# Altium footprint library GY-521.PcbLib: 1 footprints
Each footprint in its own frame and in the unit in brackets; x right, y up, seen from the top. Pads: shape width x height; smd on the part's side, far side on the other; paste and mask are expansions set on the pad; w line width, h text height; cw(c..) or ccw(c..) is an arc to the next point about the centre after c.
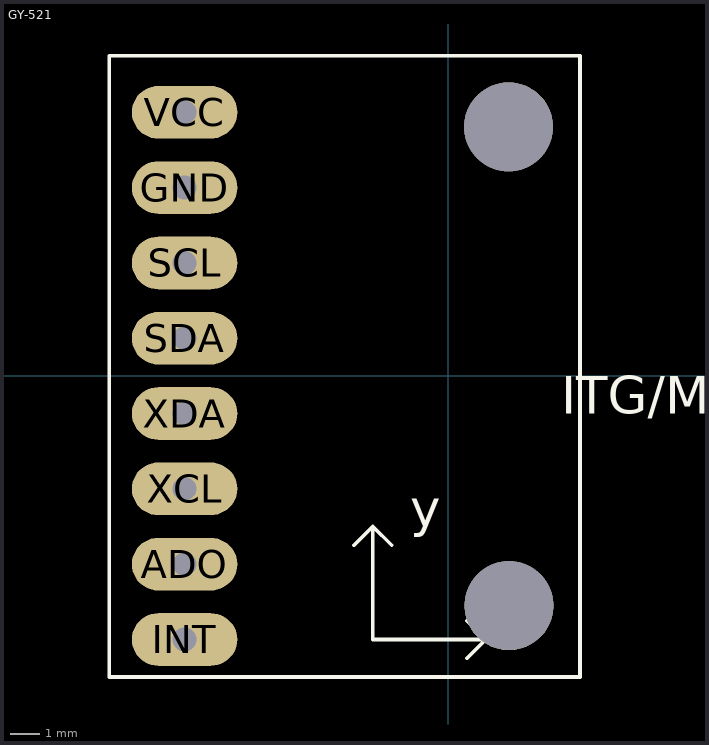
[diagram p0: the footprint, top view; thin cyan lines are the x and y axes]

## GY-521 [mm]
pads (10):
  oval 3.556x1.778 hole 0.8: ADO(-8.89,-6.35) GND(-8.89,6.35) INT(-8.89,-8.89) SCL(-8.89,3.81) SDA(-8.89,1.27) VCC(-8.89,8.89) XCL(-8.89,-3.81) XDA(-8.89,-1.27)
  round 3 hole 3 unplated: ""(2.04,8.4) ""(2.05,-7.75)
Top Overlay:
  lines w0.127: -3.175,-5.715 -2.54,-5.08 ; -1.905,-5.715 -2.54,-5.08 ; 0.635,-9.525 1.27,-8.89 ; 0.635,-8.255 1.27,-8.89 ; -2.54,-5.08 -2.54,-8.89 1.27,-8.89 ; -11.43,-10.16 4.445,-10.16 4.445,10.795 -11.43,10.795 -11.43,-10.16
  text "x" at 1.905,-8.89 h1.27
  text "y" at -1.27,-5.08 h1.27
  text "ITG/MPU" at 3.81,-1.27 h1.27
3D body "step_temp.STEP": height 3, standoff 0, extent -7.85,-10.15 7.85,10.15